# Altium integrated library SEMTECH_Wireless.IntLib: 2 symbols
Pins are listed as number, name and electrical type; pins without a type are passive.

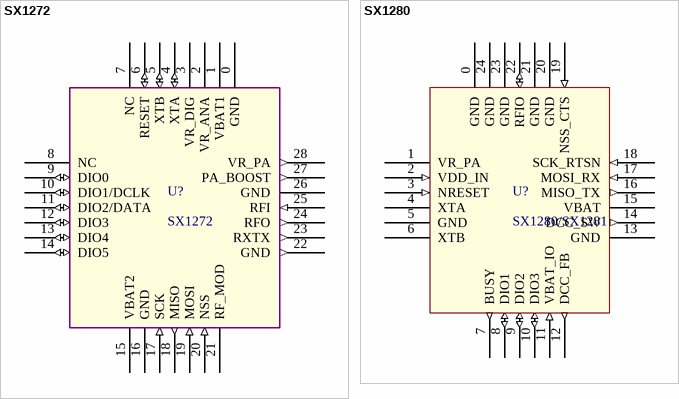
[diagram p0: symbols SX1272 to SX1280]

## SX1272
designator U?
SX1272/73 - 860 MHz to 1020 MHz Low Power Long Range Transceiver; CmponentLink1Description: Datasheet; CmponentLink1URL: http://www.semtech.com/images/datasheet/sx1272.pdf; Supplier 1: Mouser; Supplier Part Number 1: 947-SX1272IMLTRT
footprint QFN65P600X600X100-29_480X480 (QFN Recommended Land Pattern SX1272/73)
pins: 0 GND (power) "Exposed ground pad", 1 VBAT1 (power) "Supply voltage", 2 VR_ANA "Regulated supply voltage for analogue circuitry", 3 VR_DIG "Regulated supply voltage for digital blocks", 4 XTA (io) "XTAL connection or TCXO input", 5 XTB (io) "XTAL connection", 6 RESET (io) "Reset trigger input", 7 NC "Can be connected to Ground", 8 NC "Can be connected to Ground", 9 DIO0 (io) "Digital I/O, software configured", 10 DIO1/DCLK (io) "Digital I/O, software configured", 11 DIO2/DATA (io) "Digital I/O, software configured", 12 DIO3 (io) "Digital I/O, software configured", 13 DIO4 (io) "Digital I/O, software configured", 14 DIO5 (io) "Digital I/O, software configured", 15 VBAT2 (power) "Supply voltage", 16 GND (power) "Ground", 17 SCK (in) "SPI Clock input", 18 MISO (out) "SPI Data output", 19 MOSI (in) "SPI Data input", 20 NSS (in) "SPI Chip select input", 21 RF_MOD "NC", 22 GND (out) "Ground", 23 RXTX (out) "Rx/Tx switch control: high in Tx", 24 RFO (out) "RF output", 25 RFI (in) "RF input", 26 GND (power) "Ground", 27 PA_BOOST (out) "Optional high-power PA output", 28 VR_PA (out) "Regulated supply for the PA"

## SX1280
designator U?, comment SX1280/SX1281
Long Range, Low Power, 2.4 GHz Transceiver with Ranging Capability; ComponentLink1Description: Datasheet; ComponentLink1URL: https://www.semtech.com/uploads/documents/DS_SX1280-1_V2.2.pdf
footprint QFN25P50_400X400X100L40X24T260N (4x4mm QFN package with 0.5mm pitch)
pins: 0 GND (power) "Exposed Ground pad", 1 VR_PA (power) "Regulated supply for the PA", 2 VDD_IN (in) "Regulated supply input. Connect to Pin 12", 3 NRESET (in) "Reset signal, active low with internal pull-up at 50 kΩ", 4 XTA "Reference oscillator connection or TCXO input", 5 GND (power) "Ground", 6 XTB "Reference oscillator connection", 7 BUSY (out) "Transceiver busy indicator", 8 DIO1 (io) "Optional multi-purpose digital I/O", 9 DIO2 (io) "Optional multi-purpose digital I/O", 10 DIO3 (io) "Optional multi-purpose digital I/O", 11 VBAT_IO (in) "Supply for the Digital IO interface (1.8 V to 3.7 V). Must be ≤ VBAT", 12 DCC_FB (out) "Regulated output voltage from the internal regulator", 13 GND (power) "Ground", 14 DCC_SW (out) "DC-DC Switcher Output", 15 VBAT (power) "Supply for the RFIC (1.8 V to 3.7 V). Must be ≥ VBAT_IO", 16 MISO_TX (out) "SPI slave output/UART Transmit pin", 17 MOSI_RX (in) "SPI slave input/UART Receive pin", 18 SCK_RTSN (in) "SPI clock/UART Request To Send", 19 NSS_CTS (in) "SPI Slave Select/UART Clear To Send", 20 GND (power) "Ground", 21 GND (power) "Ground", 22 RFIO (io) "RF transmit output and receive input", 23 GND (power) "Ground", 24 GND (power) "Ground"